# EAGLE library part CP2102N-A02-GQFN20 (library CP2102N-A02-GQFN20)
Check availability <https://pricing.snapeda.com/parts/CP2102N-A02-GQFN20/Silicon%20Labs/view-part?ref=eda>
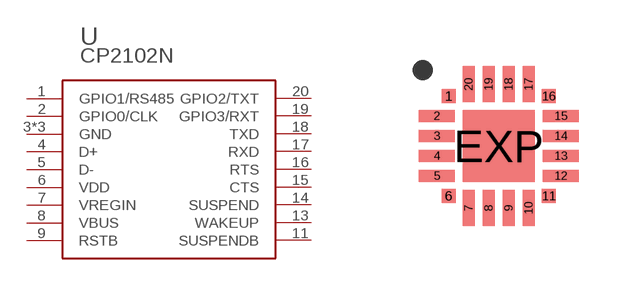
[diagram p0: symbol with the pads of WFQFN-20; footprint WFQFN-20]

Designator prefix U

## CP2102N-A02-GQFN20 (Availability: In Stock; Description: USB Bridge, USB to UART USB 2.0 UART Interface 20-QFN (3x3); MF: Silicon Labs; MP: CP2102N-A02-GQFN20; Package: WFQFN-20 Silicon Labs; Price: None; Purchase-URL: https://pricing.snapeda.com/search/part/CP2102N-A02-GQFN20/?ref=eda)  [WFQFN-20]
1  GPIO1/RS485
2  GPIO0/CLK
3  GND
4  D+
5  D-
6  VDD
7  VREGIN
8  VBUS
9  RSTB
11  SUSPENDB
12  GND
13  WAKEUP
14  SUSPEND
15  CTS
16  RTS
17  RXD
18  TXD
19  GPIO3/RXT
20  GPIO2/TXT
EXP  GND

## Footprint WFQFN-20 (pad centres in mm)
smd 0.35 x 0.35: 1 -1.25,1.25; 6 -1.25,-1.25; 11 1.25,-1.25; 16 1.25,1.25
smd 0.9 x 0.3: 2 -1.55,0.75; 3 -1.55,0.25; 4 -1.55,-0.25; 5 -1.55,-0.75; 12 1.55,-0.75; 13 1.55,-0.25; 14 1.55,0.25; 15 1.55,0.75
smd 0.3 x 0.9: 7 -0.75,-1.55; 8 -0.25,-1.55; 9 0.25,-1.55; 10 0.75,-1.55; 17 0.75,1.55; 18 0.25,1.55; 19 -0.25,1.55; 20 -0.75,1.55
smd 1.8 x 1.8: EXP 0,0